# Altium footprint library Footprints.PcbLib: 3 footprints
Each footprint in its own frame and in the unit in brackets; x right, y up, seen from the top. Pads: shape width x height; smd on the part's side, far side on the other; paste and mask are expansions set on the pad; w line width, h text height; cw(c..) or ccw(c..) is an arc to the next point about the centre after c.
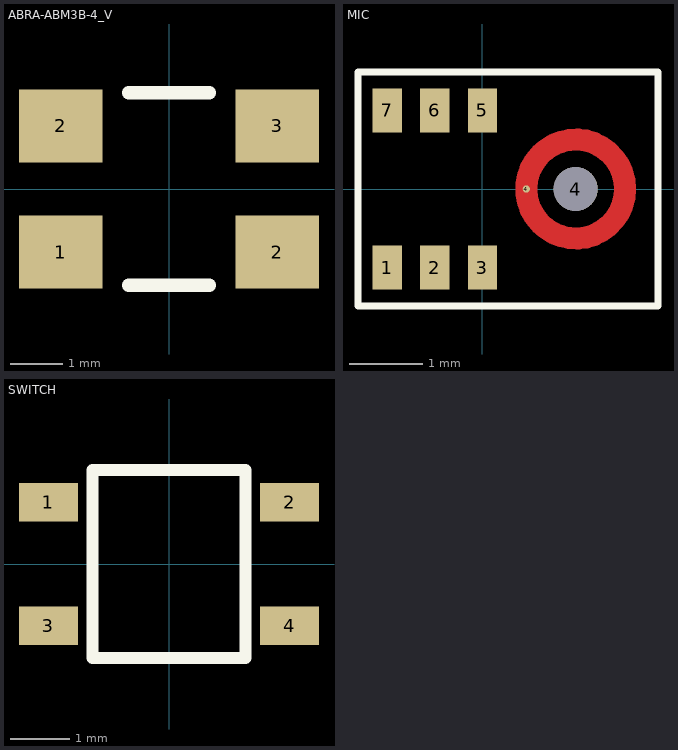
[diagram p0: the footprints below, top view; thin cyan lines are the x and y axes]

## ABRA-ABM3B-4_V [mil] "SMT Crystal, 4-Leads, Body 5.2x3.4mm"
pads (4):
  rect 63x55 smd: 1(-81.5,-47.5) 2(-81.5,47.5) 2(81.5,-47.5) 3(81.5,47.5)
Top Overlay:
  lines w10: -30.5,-72.5 30.5,-72.5 ; -30.5,72.5 30.5,72.5
3D body "ABM3B.STEP": height 43.3, standoff -0.5, extent -98.42,-62.49 98.43,62.51

## MIC [mm]
pads (8):
  rect 0.4x0.6 smd: 1(-1.3,-1.075) 2(-0.65,-1.075) 3(0,-1.075) 5(0,1.075) 6(-0.65,1.075) 7(-1.3,1.075)
  round 0.1 smd mask+0: 4(0.6,0)
  round 0.6 hole 0.6 unplated mask+0: 4(1.275,0)
Top Layer:
  circle w0.3: c1.275,0 r0.675
Top Overlay:
  lines w0.1: -1.7,-1.6 2.4,-1.6 2.4,1.6 -1.7,1.6 -1.7,-1.6
3D body: height 1, standoff 0.27, extent -1.525,-1.4 2.275,1.4
3D body: height 0.27, standoff 0, extent -1.625,-1.5 2.375,1.5

## SWITCH [mm]
pads (4):
  rect 1x0.65 smd: 1(-2.05,1.05) 2(2.05,1.05) 3(-2.05,-1.05) 4(2.05,-1.05)
Top Overlay:
  lines w0.2: -1.3,-1.6 -1.3,1.6 1.3,1.6 1.3,-1.6 -1.3,-1.6
3D body "PTS810.STEP": height 2.5, standoff 0, extent -2.3,-1.6 2.3,1.6